# Altium schematic symbol library 25LQ025B.SchLib: 1 symbol
Pins are listed as number, name and electrical type; pins without a type are passive.

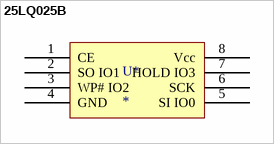
[diagram p0: symbol 25LQ025B]

## 25LQ025B
designator U*
3V SPI FLASH Memory
footprint SOIC127P600X175-8N (SOIC, 8-Leads, Body 4.90x3.90mm, Pitch 1.27mm, IPC Medium Density)
pins: 1 CE, 2 SO IO1, 3 WP# IO2, 4 GND, 5 SI IO0, 6 SCK, 7 HOLD IO3, 8 Vcc